# Altium footprint library CVS-1508.PcbLib: 1 footprints
Each footprint in its own frame and in the unit in brackets; x right, y up, seen from the top. Pads: shape width x height; smd on the part's side, far side on the other; paste and mask are expansions set on the pad; w line width, h text height; cw(c..) or ccw(c..) is an arc to the next point about the centre after c.
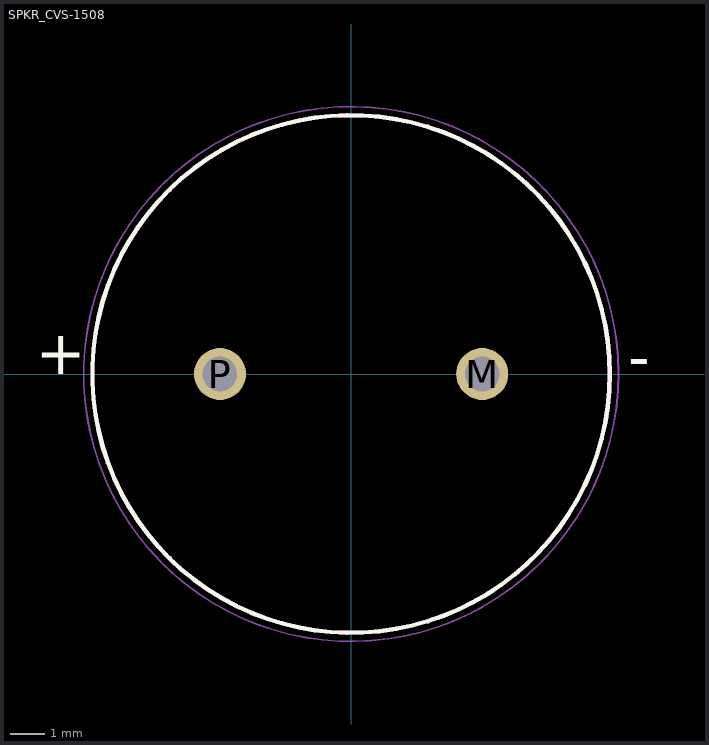
[diagram p0: the footprint, top view; thin cyan lines are the x and y axes]

## SPKR_CVS-1508 [mm]
pads (2):
  round 1.508 hole 1: M(3.8,0) P(-3.8,0)
Top Overlay:
  circle w0.127: c0,0 r7.5
  text "-" at 8.031,-0.127 h1.27
  text "+" at -9.137,0 h1.27
Mechanical 13:
  circle w0.127: c0,0 r7.5
Mechanical 15:
  circle w0.05: c0,0 r7.75
3D body "cvs-1508.stp": height 7.6, standoff -6.1, extent -7.5,-7.5 7.5,8.5